# Altium footprint library Drivers.PcbLib: 2 footprints
Each footprint in its own frame and in the unit in brackets; x right, y up, seen from the top. Pads: shape width x height; smd on the part's side, far side on the other; paste and mask are expansions set on the pad; w line width, h text height; cw(c..) or ccw(c..) is an arc to the next point about the centre after c.
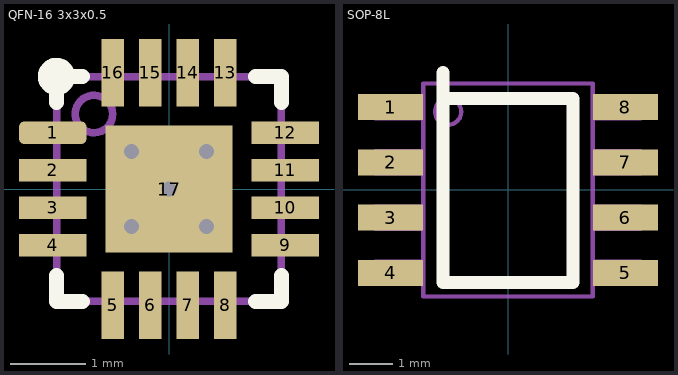
[diagram p0: the footprints below, top view; thin cyan lines are the x and y axes]

## QFN-16 3x3x0.5 [mm]
pads (17):
  rrect50% 0.9x0.3 smd: 1(-1.55,0.75)
  rect 0.9x0.3 smd: 2(-1.55,0.25) 3(-1.55,-0.25) 4(-1.55,-0.75) 9(1.55,-0.75) 10(1.55,-0.25) 11(1.55,0.25) 12(1.55,0.75)
  rect 0.3x0.9 smd: 5(-0.75,-1.55) 6(-0.25,-1.55) 7(0.25,-1.55) 8(0.75,-1.55) 13(0.75,1.55) 14(0.25,1.55) 15(-0.25,1.55) 16(-0.75,1.55)
  rect 1.7x1.7 smd: 17(0,0)
via -0.5,0.5 diameter 0.4 hole 0.2
via 0.5,0.5 diameter 0.4 hole 0.2
via 0.5,-0.5 diameter 0.4 hole 0.2
via -0.5,-0.5 diameter 0.4 hole 0.2
via 0,0 diameter 0.4 hole 0.2
Top Overlay:
  circle w0.25: c-1.5,1.5 r0.125
  lines w0.2: -1.5,-1.15 -1.5,-1.5 -1.15,-1.5 ; -1.5,1.15 -1.5,1.5 -1.15,1.5 ; 1.15,-1.5 1.5,-1.5 1.5,-1.15 ; 1.15,1.5 1.5,1.5 1.5,1.15
Mechanical 1:
  circle w0.1: c-1,1 r0.25
  lines w0.1: -1.5,-1.5 -1.5,1.5 1.5,1.5 1.5,-1.5 -1.5,-1.5
  text "'.Designator'" at -1.55,1.725 h0.8
  text "'.Comment'" at -1.4,-1.275 h0.8
3D body "User Library-QFN-16 3x3.step": height 0.9, standoff 0, extent -1.501,-1.501 1.501,1.501

## SOP-8L [mm] "SOP-8L"
height 1.75
pads (8):
  rect 1.5x0.6 smd: 1(-2.7,1.905) 2(-2.7,0.635) 3(-2.7,-0.635) 4(-2.7,-1.905) 5(2.7,-1.905) 6(2.7,-0.635) 7(2.7,0.635) 8(2.7,1.905)
Top Overlay:
  lines w0.3: -1.5,2.7 -1.5,2.1 ; -1.5,2.1 1.5,2.1 1.5,-2.125 -1.5,-2.125 -1.5,2.1
Mechanical 1:
  circle w0.1: c-1.375,1.8 r0.3
  lines w0.1: -2.413,-2.032 -2.413,-1.778 ; -2.413,-0.762 -2.413,-0.508 ; -2.413,0.508 -2.413,0.762 ; -2.413,1.778 -2.413,2.032 ; -1.95,-2.159 -3.048,-2.159 -3.048,-1.651 -1.95,-1.651 ; -1.95,-0.889 -3.048,-0.889 -3.048,-0.381 -1.95,-0.381 ; -1.95,0.381 -3.048,0.381 -3.048,0.889 -1.95,0.889 ; -1.95,1.651 -3.048,1.651 -3.048,2.159 -1.95,2.159 ; 1.95,-2.159 3.048,-2.159 3.048,-1.651 1.95,-1.651 ; 1.95,-0.889 3.048,-0.889 3.048,-0.381 1.95,-0.381 ; 1.95,0.381 3.048,0.381 3.048,0.889 1.95,0.889 ; 1.95,1.651 3.048,1.651 3.048,2.159 1.95,2.159 ; 2.413,-2.032 2.413,-1.778 ; 2.413,-0.762 2.413,-0.508 ; 2.413,0.508 2.413,0.762 ; 2.413,1.778 2.413,2.032 ; -1.95,-2.45 1.95,-2.45 1.95,2.45 -1.95,2.45 -1.95,-2.45
  text "'.Designator'" at -1.1,2.6 h1
  text "'.Comment'" at 1.45,-2.225 h1
3D body "SOP-8L.step": height 1.75, standoff 0, extent -3,-2.45 3,2.45